# Altium footprint library connectors.PcbLib: 18 footprints (part 2 of 2)
Each footprint in its own frame and in the unit in brackets; x right, y up, seen from the top. Pads: shape width x height; smd on the part's side, far side on the other; paste and mask are expansions set on the pad; w line width, h text height; cw(c..) or ccw(c..) is an arc to the next point about the centre after c.
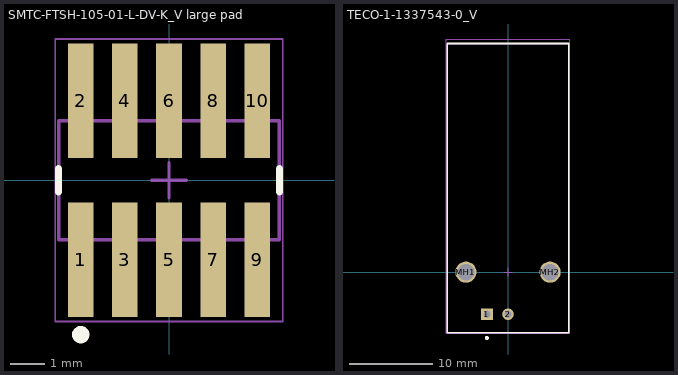
[diagram p1: the footprints below, top view; thin cyan lines are the x and y axes]

## SMTC-FTSH-105-01-L-DV-K_V large pad [mm] "CONN, 10-Leads, Body 6.35x3.43mm, Pitch 1.27mm"
height 6.25
pads (10):
  rect 0.74x3.298 smd: 1(-2.54,-2.289) 2(-2.54,2.289) 3(-1.27,-2.289) 4(-1.27,2.289) 5(0,-2.289) 6(0,2.289) 7(1.27,-2.289) 8(1.27,2.289) 9(2.54,-2.289) 10(2.54,2.289)
Top Overlay:
  circle w0.25: c-2.54,-4.445 r0.125
  lines w0.2: -3.175,-0.341 -3.175,0.341 ; 3.175,-0.341 3.175,0.341
Mechanical 13:
  lines w0.1: -3.175,-1.715 -3.175,1.715 3.175,1.715 3.175,-1.715 -3.175,-1.715
Mechanical 15:
  lines w0.05: -3.275,-4.064 -3.275,4.064 3.275,4.064 3.275,-4.064 -3.275,-4.064
  lines w0.1: -0.5,0 0.5,0 ; 0,-0.5 0,0.5
3D body "FTSH-105-01-L-DV-K.stp": height 6.12, standoff 0, extent -3.175,-2.921 3.175,2.921

## TECO-1-1337543-0_V [mm] "SMD, 2-Leads, Body 34.9x14.7mm, Pitch 2.54mm"
height 15.8
pads (4):
  rect 1.4x1.4 hole 0.89: 1(-2.54,-5.08)
  round 1.4 hole 0.89: 2(0,-5.08)
  round 2.55 hole 2.01: MH1(-5.08,0) MH2(5.08,0)
Top Overlay:
  circle w0.25: c-2.54,-7.95 r0.125
  lines w0.2: -7.35,-7.3 -7.35,27.6 7.35,27.6 7.35,-7.3 -7.35,-7.3
Mechanical 13:
  lines w0.1: -7.35,-7.3 7.35,-7.3 7.35,27.6 -7.35,27.6 -7.35,-7.3
Mechanical 15:
  lines w0.05: -7.45,-7.4 7.45,-7.4 7.45,28.15 -7.45,28.15 -7.45,-7.4
  lines w0.1: -0.5,0 0.5,0 ; 0,-0.5 0,0.5
3D body "c-1-1337543-0-e-3d.stp": height 15.8, standoff -4.3, extent -7.35,-7.1 7.35,28.05